# Altium schematic symbol library LTR303ALS.SchLib: 1 symbol
Pins are listed as number, name and electrical type; pins without a type are passive.

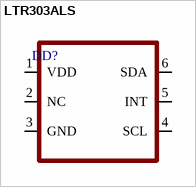
[diagram p0: symbol LTR303ALS]

## LTR303ALS
designator DD?
pins: 1 VDD, 2 NC, 3 GND, 4 SCL, 5 INT, 6 SDA